# EAGLE library part 74*1T45 (library 74lvc1t45)
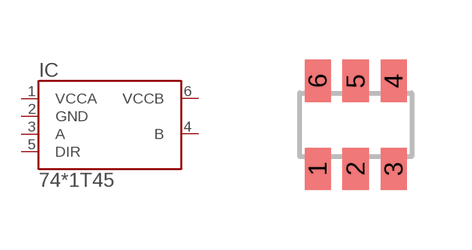
[diagram p0: symbol with the pads of SOT236; footprint SOT236]

Designator prefix IC

## 74LVC1T45DBV  [SOT236]
1  VCCA  pas
2  GND  pas
3  A
4  B
5  DIR  in
6  VCCB  pas

## Footprint SOT236 (pad centres in mm)
SOT-23-6, from http://www.diodes.com/zetex/_pdfs/3.0/pack/SOT23-6.pdf
smd 0.65 x 1.06: 1 -0.95,-1.1; 2 0,-1.1; 3 0.95,-1.1; 4 0.95,1.1; 5 0,1.1; 6 -0.95,1.1